# Altium footprint library myLib.PcbLib: 111 footprints (part 7 of 7)
Each footprint in its own frame and in the unit in brackets; x right, y up, seen from the top. Pads: shape width x height; smd on the part's side, far side on the other; paste and mask are expansions set on the pad; w line width, h text height; cw(c..) or ccw(c..) is an arc to the next point about the centre after c.
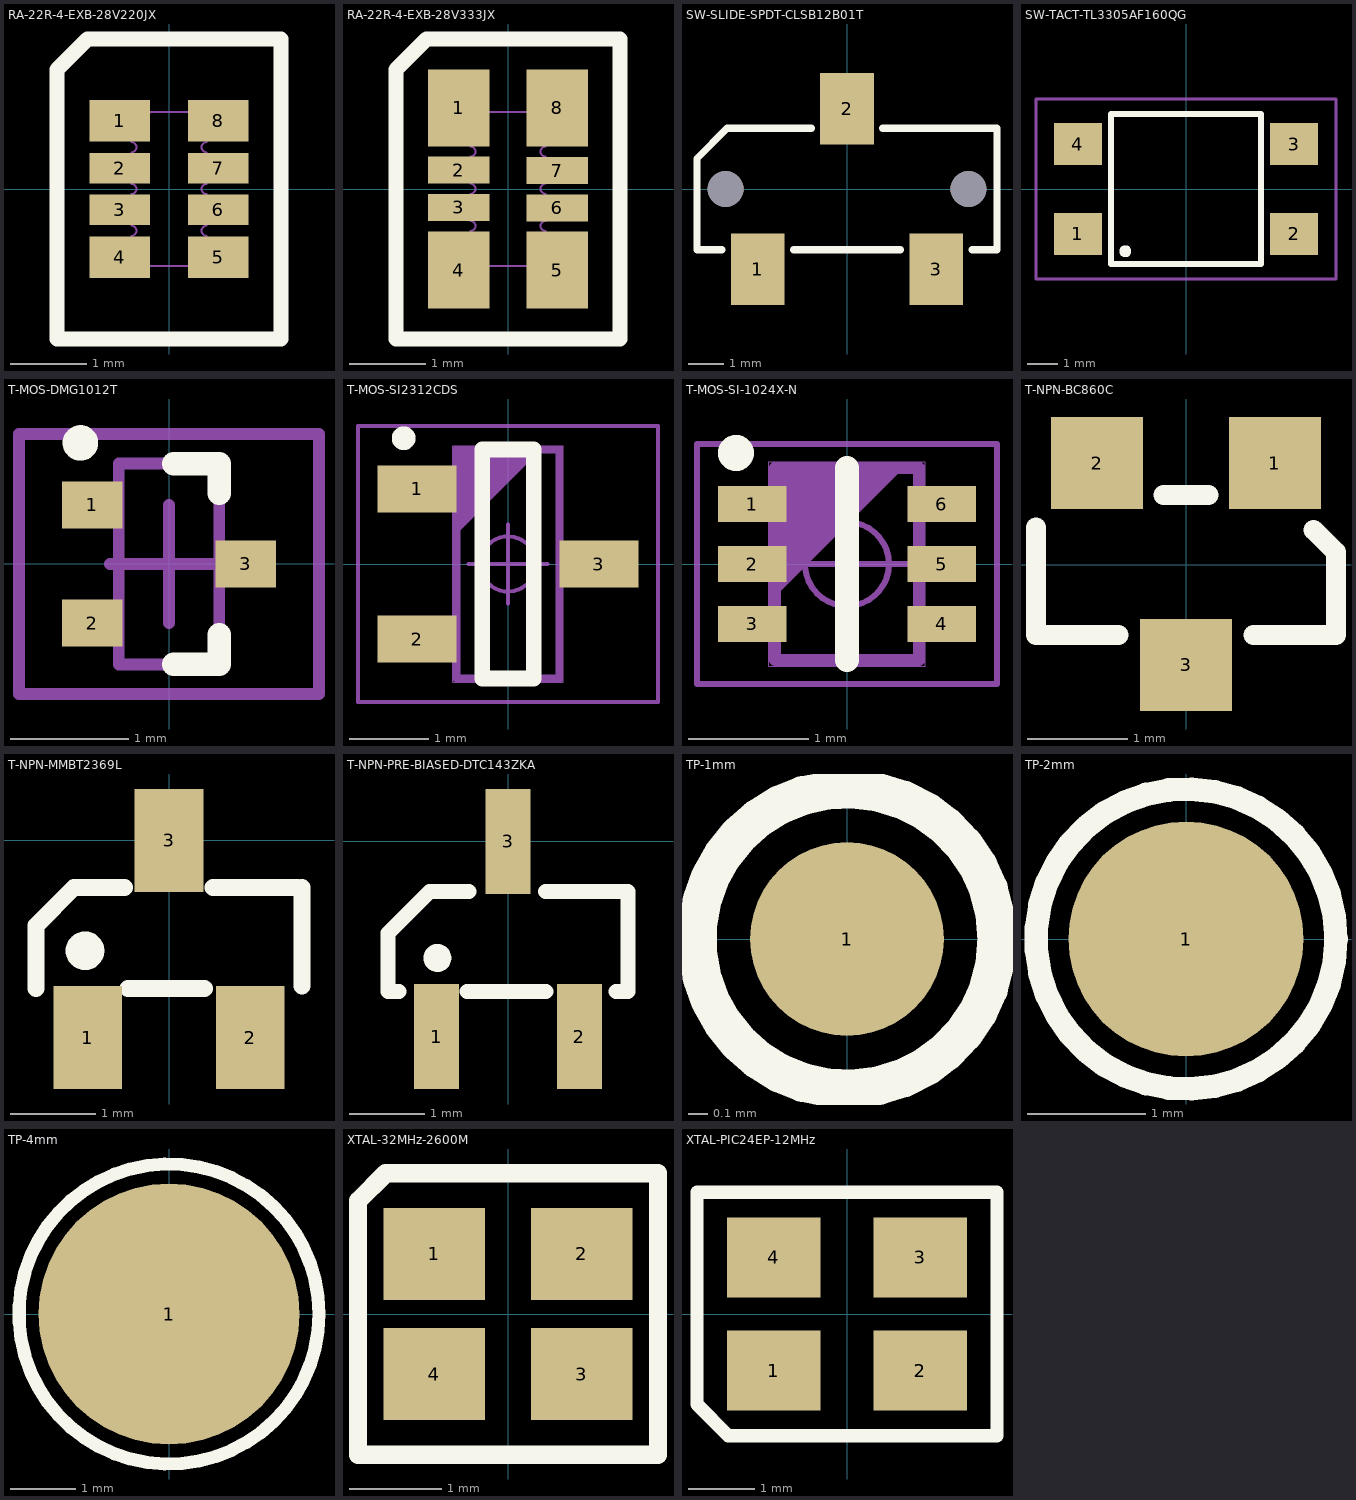
[diagram p6: the footprints below, top view; thin cyan lines are the x and y axes]

## RA-22R-4-EXB-28V220JX [mm] "Resistor Array 4, 22R, EXB-28V220JX"
pads (8):
  rect 0.8x0.55 smd: 1(-0.65,0.9) 4(-0.65,-0.9) 5(0.65,-0.9) 8(0.65,0.9)
  rect 0.8x0.4 smd: 2(-0.65,0.275) 3(-0.65,-0.275) 6(0.65,-0.275) 7(0.65,0.275)
Top Overlay:
  lines w0.2: -1.475,-1.975 1.475,-1.975 1.475,1.975 -1.075,1.975 -1.475,1.575 -1.475,-1.975
Drawing:
  lines w0.025: -0.495,0.762 -0.241,1.016 ; -0.495,-1.016 0.495,-1.016 0.495,-0.617 cw(c0.495,-0.55) 0.495,-0.483 0.495,-0.067 cw(c0.495,0) 0.495,0.067 0.495,0.483 cw(c0.495,0.55) 0.495,0.617 0.495,1.016 -0.495,1.016 -0.495,0.617 cw(c-0.495,0.55) -0.495,0.483 -0.495,0.067 cw(c-0.495,0) -0.495,-0.067 -0.495,-0.483 cw(c-0.495,-0.55) -0.495,-0.617 -0.495,-1.016

## RA-22R-4-EXB-28V333JX [mil] "Resistor Array 4, 22R, EXB-28V333JX"
pads (8):
  rect 31.84x40 smd: 1(-25.58,42) 4(-25.58,-42) 5(25.58,-42) 8(25.58,42)
  rect 31.84x14 smd: 2(-25.58,9.75) 3(-25.58,-9.5) 6(25.58,-9.75) 7(25.58,9.5)
Top Overlay:
  lines w7.87: -58.07,-77.76 58.07,-77.76 58.07,77.76 -42.32,77.76 -58.07,62.01 -58.07,-77.76
Drawing:
  lines w1: -19.5,-22 -19.5,-40 19.5,-40 19.5,-22 ; -19.5,-21.74 ccw(c-19.5,-19.12) -19.5,-16.5 -19.5,-2.5 ccw(c-19.5,0.13) -19.5,2.75 -19.5,16.75 ccw(c-19.5,19.38) -19.5,22 -19.5,40 19.5,40 19.5,22 ccw(c19.5,19.38) 19.5,16.75 19.5,2.75 ccw(c19.5,0.13) 19.5,-2.5 19.5,-16.5 ccw(c19.5,-19.12) 19.5,-21.74 ; -19.5,30 -9.5,40

## SW-SLIDE-SPDT-CLSB12B01T [mm] "Slide Switch, SPDT, Surface Mount"
pads (5):
  rect 1.5x2 smd: 1(-2.5,-2.25) 2(0,2.25) 3(2.5,-2.25)
  round 1 hole 1 unplated: ""(-3.4,0) ""(3.4,0)
Top Overlay:
  lines w0.2: -3.5,-1.7 -4.2,-1.7 -4.2,0.856 -3.356,1.7 -1,1.7 ; -1.5,-1.7 1.5,-1.7 ; 1,1.7 4.2,1.7 4.2,-1.7 3.5,-1.7
3D body "CL-SB-12B-01T.stp": height 5.6, standoff -0.7, extent -4.25,-2.5 4.25,2.5

## SW-TACT-TL3305AF160QG [mm] "SWITCH TACTILE SPST-NO 50MA 12V"
pads (4):
  rect 1.6x1.4 smd: 1(-3.6,-1.5) 2(3.6,-1.5) 3(3.6,1.5) 4(-3.6,1.5)
Top Overlay:
  circle w0.2: c-2.025,-2.075 r0.1
  lines w0.2: -2.5,-2.5 2.5,-2.5 2.5,2.5 -2.5,2.5 -2.5,-2.5
Drawing:
  lines w0.1: -5,-3 5,-3 5,3 -5,3 -5,-3
3D body "TL3305AFxxxxG.stp": height 3.7, standoff -0.1, extent -3.75,-2.25 3.75,2.25

## T-MOS-DMG1012T [mm] "MOSFET, SOT23, 3-Leads (DMG1012T)"
height 0.8
pads (3):
  rect 0.51x0.4 smd: 1(-0.65,0.5) 2(-0.65,-0.5) 3(0.65,0)
Top Overlay:
  circle w0.2: c-0.75,1.025 r0.05
  lines w0.2: 0.039,-0.85 0.425,-0.85 0.425,-0.6 ; 0.039,0.85 0.425,0.85 0.425,0.6
Drawing:
  lines w0.1: -0.425,-0.85 0.425,-0.85 0.425,0.85 -0.425,0.85 -0.425,-0.85
Mechanical:
  lines w0.1: -0.5,0 0.5,0 ; 0,-0.5 0,0.5 ; -1.27,-1.1 1.27,-1.1 1.27,1.1 -1.27,1.1 -1.27,-1.1
3D body: height 0.8, standoff 0.12, extent -0.425,-0.85 0.425,0.85

## T-MOS-SI2312CDS [mm] "MOSFET (SI2312CDS)"
height 1.12
pads (3):
  rect 1x0.6 smd: 1(-1.15,0.95) 2(-1.15,-0.95) 3(1.15,0)
Top Overlay:
  circle w0.2: c-1.321,1.593 r0.05
  lines w0.2: -0.325,-1.45 -0.325,1.45 0.325,1.45 0.325,-1.45 -0.325,-1.45
Drawing:
  circle w0.05: c0,0 r0.35
  lines w0.05: -0.5,0 0.5,0 ; 0,-0.5 0,0.5 ; -1.9,-1.75 -1.9,1.75 1.9,1.75 1.9,-1.75 -1.9,-1.75
3D:
  lines w0.001: -0.7,-1.5 -0.7,1.5 0.7,1.5 0.7,-1.5 -0.7,-1.5
Mechanical:
  lines w0.1: -0.65,0.45 0.35,1.45 ; -0.65,0.55 0.25,1.45 ; -0.65,0.65 0.15,1.45 ; -0.65,0.75 0.05,1.45 ; -0.65,0.85 -0.05,1.45 ; -0.65,0.95 -0.15,1.45 ; -0.65,1.05 -0.25,1.45 ; -0.65,1.15 -0.35,1.45 ; -0.65,1.25 -0.45,1.45 ; -0.65,1.35 -0.55,1.45 ; -0.65,-1.45 -0.65,1.45 0.65,1.45 0.65,-1.45 -0.65,-1.45
3D body: height 1.12, standoff 0, extent -0.7,-1.5 0.7,1.5

## T-MOS-SI-1024X-N [mm] "MOSFET (SI-1024X-N)"
height 0.6
pads (6):
  rect 0.57x0.3 smd: 1(-0.79,0.5) 2(-0.79,0) 3(-0.79,-0.5) 4(0.79,-0.5) 5(0.79,0) 6(0.79,0.5)
Top Overlay:
  circle w0.2: c-0.925,0.925 r0.05
  lines w0.2: 0,-0.8 0,0.8
Drawing:
  circle w0.05: c0,0 r0.35
  lines w0.05: -0.5,0 0.5,0 ; 0,-0.5 0,0.5 ; -1.25,-1 1.25,-1 1.25,1 -1.25,1 -1.25,-1
3D:
  lines w0.001: -0.65,-0.85 0.65,-0.85 0.65,0.85 -0.65,0.85 -0.65,-0.85
Mechanical:
  lines w0.1: -0.6,-0.2 0.4,0.8 ; -0.6,-0.1 0.3,0.8 ; -0.6,0 0.2,0.8 ; -0.6,0.1 0.1,0.8 ; -0.6,0.2 0,0.8 ; -0.6,0.3 -0.1,0.8 ; -0.6,0.4 -0.2,0.8 ; -0.6,0.5 -0.3,0.8 ; -0.6,0.6 -0.4,0.8 ; -0.6,0.7 -0.5,0.8 ; -0.6,-0.8 0.6,-0.8 0.6,0.8 -0.6,0.8 -0.6,-0.8
3D body: height 0.6, standoff 0, extent -0.65,-0.85 0.65,0.85

## T-NPN-BC860C [mm] "Transistor, NPN, SOT23  (BC860C)"
pads (3):
  rect 0.92x0.92 smd: 1(0.889,1.016) 2(-0.889,1.016) 3(0,-1)
Top Overlay:
  lines w0.2: -1.5,0.375 -1.5,-0.7 -0.675,-0.7 ; -0.225,0.7 0.225,0.7 ; 0.675,-0.7 1.5,-0.7 1.5,0.126 1.275,0.35

## T-NPN-MMBT2369L [mm] "NPN Transistor, SOT-23"
pads (3):
  rect 0.8x1.2 smd: 1(-0.95,-2.3) 2(0.95,-2.3) 3(0,0)
Top Overlay:
  circle w0.254: c-0.98,-1.287 r0.098
  lines w0.2: -1.55,-1.726 -1.55,-0.993 -1.107,-0.55 -0.521,-0.55 ; -0.477,-1.726 0.412,-1.726 ; 0.517,-0.55 1.5,-0.55 ; 1.55,-1.7 1.55,-0.55

## T-NPN-PRE-BIASED-DTC143ZKA [mm] "DTC143ZEBTL, NPN, Pre-Biased, SOT-490"
pads (3):
  rect 0.6x1.4 smd: 1(-0.95,-2.6) 2(0.95,-2.6) 3(0,0)
Top Overlay:
  circle w0.254: c-0.942,-1.553 r0.059
  lines w0.2: -1.453,-2 -1.6,-2 -1.6,-1.223 -1.044,-0.667 -0.52,-0.667 ; -0.549,-2 0.506,-2 ; 0.499,-0.667 1.6,-0.667 1.6,-2 1.442,-2

## TP-1mm [mm] "TestPoint 1mm Diameter"
pads (1):
  round 1 smd: 1(0,0)
Top Overlay:
  circle w0.2: c0,0 r0.775

## TP-2mm [mm] "TestPoint 2mm Diameter"
pads (1):
  round 2 smd: 1(0,0)
Top Overlay:
  circle w0.2: c0,0 r1.275

## TP-4mm [mm] "TestPoint 4mm Diameter"
pads (1):
  round 4 smd: 1(0,0)
Top Overlay:
  circle w0.2: c0,0 r2.3

## XTAL-32MHz-2600M [mm] "32MHz Crystal, +-10ppm (EPSON 2600M)"
pads (4):
  rect 1.1x1 smd: 1(-0.8,0.65) 2(0.8,0.65) 3(0.8,-0.65) 4(-0.8,-0.65)
Top Overlay:
  lines w0.2: -1.625,-1.525 -1.625,1.225 -1.325,1.525 1.625,1.525 1.625,-1.525 -1.625,-1.525

## XTAL-PIC24EP-12MHz [mm] "12MHz Crystal for PIC24EP256GP214"
pads (4):
  rect 1.4x1.2 smd: 1(-1.1,-0.85) 2(1.1,-0.85) 3(1.1,0.85) 4(-1.1,0.85)
Top Overlay:
  lines w0.2: -2.25,-1.357 -2.25,1.825 2.25,1.825 2.25,-1.825 -1.782,-1.825 -2.25,-1.357